# EAGLE library part 691403900003 (library Wurth_Terminal_Blocks_Connectors_rev15d)
WR-TBL Terminal block - serie 4039 2,54mm - Spring clamp/Screwless - Vertical wire entry - 03p Code:Con_TBL_Screwless_2.54_6914039000xxB_691403900003 <http://katalog.we-online.de/media/images/eican/Con_TBL_Screwless_2.54_6914039000xxB_pf2.jpg> Details see: http://katalog.we-online.de/en/em/691_403_900_0xxB/691_403_900_003B?m Created 2014-12-22, aslant tao 2014 (C) Würth Elektronik
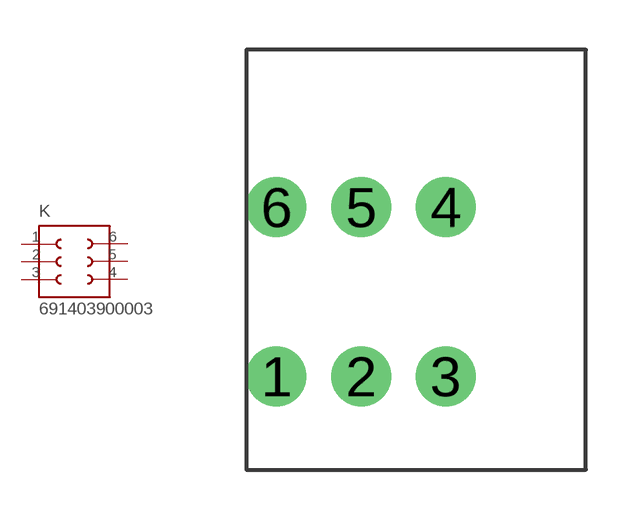
[diagram p208: symbol with the pads of 691403900003; footprint 691403900003]

Designator prefix K

## 691403900003  [691403900003]
1  1  pas
2  2  pas
3  3  pas
4  4  pas
5  5  pas
6  6  pas

## Footprint 691403900003 (pad centres in mm)
WR-TBL Serie 4039 - 2.54mm Screwless Vertical Entry - 0.5mm2 Wires, 3 Pins
drill 1.2: 1 -2.54,0; 2 0,0; 3 2.54,0; 4 2.54,5.08; 5 0,5.08; 6 -2.54,5.08